# Altium schematic symbol library ICs-Motor.SchLib: 2 symbols
Pins are listed as number, name and electrical type; pins without a type are passive.

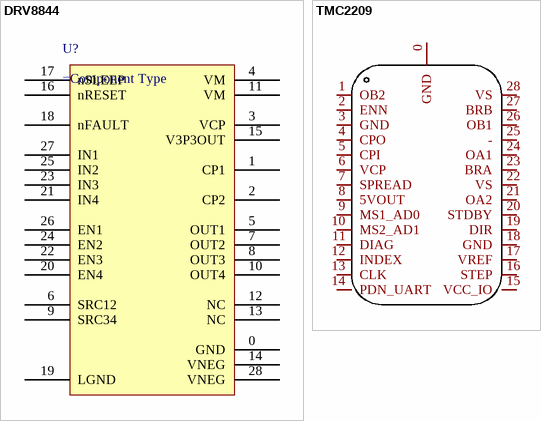
[diagram p0: symbols DRV8844 to TMC2209]

## DRV8844
designator U?
pins: 0 GND, 1 CP1, 2 CP2, 3 VCP, 4 VM, 5 OUT1, 6 SRC12, 7 OUT2, 8 OUT3, 9 SRC34, 10 OUT4, 11 VM, 12 NC, 13 NC, 14 VNEG, 15 V3P3OUT, 16 nRESET, 17 nSLEEP, 18 nFAULT, 19 LGND, 20 EN4, 21 IN4, 22 EN3, 23 IN3, 24 EN2, 25 IN2, 26 EN1, 27 IN1, 28 VNEG

## TMC2209
designator U?
Manufacturer: TRINAMIC; Name: TMC2209-LA; Add into BOM: yes; Symbol: TMC2209-LA; Device: TMC2209-LA; LCSC Part Name: TMC2209-LA; Supplier Part: C465949; Manufacturer Part: TMC2209-LA; Supplier Footprint: QFN-28; JLCPCB Part Class: Extended Part; Datasheet: https://atta.szlcsc.com/upload/public/pdf/source/20191203/C465949_E563A3313F5F3F9C62E6E946672F7886.pdf; Supplier: LCSC; Convert to PCB: yes
footprint QFN-28_L5.0-W5.0-P0.50-BL-EP
3D model TQFN-28_L5.0-W5.0-H0.8-P0.50
pins: 0 GND, 1 OB2, 2 ENN, 3 GND, 4 CPO, 5 CPI, 6 VCP, 7 SPREAD, 8 5VOUT, 9 MS1_AD0, 10 MS2_AD1, 11 DIAG, 12 INDEX, 13 CLK, 14 PDN_UART, 15 VCC_IO, 16 STEP, 17 VREF, 18 GND, 19 DIR, 20 STDBY, 21 OA2, 22 VS, 23 BRA, 24 OA1, 25 -, 26 OB1, 27 BRB, 28 VS